# Altium footprint library TPCS.PcbLib: 6 footprints
Each footprint in its own frame and in the unit in brackets; x right, y up, seen from the top. Pads: shape width x height; smd on the part's side, far side on the other; paste and mask are expansions set on the pad; w line width, h text height; cw(c..) or ccw(c..) is an arc to the next point about the centre after c.
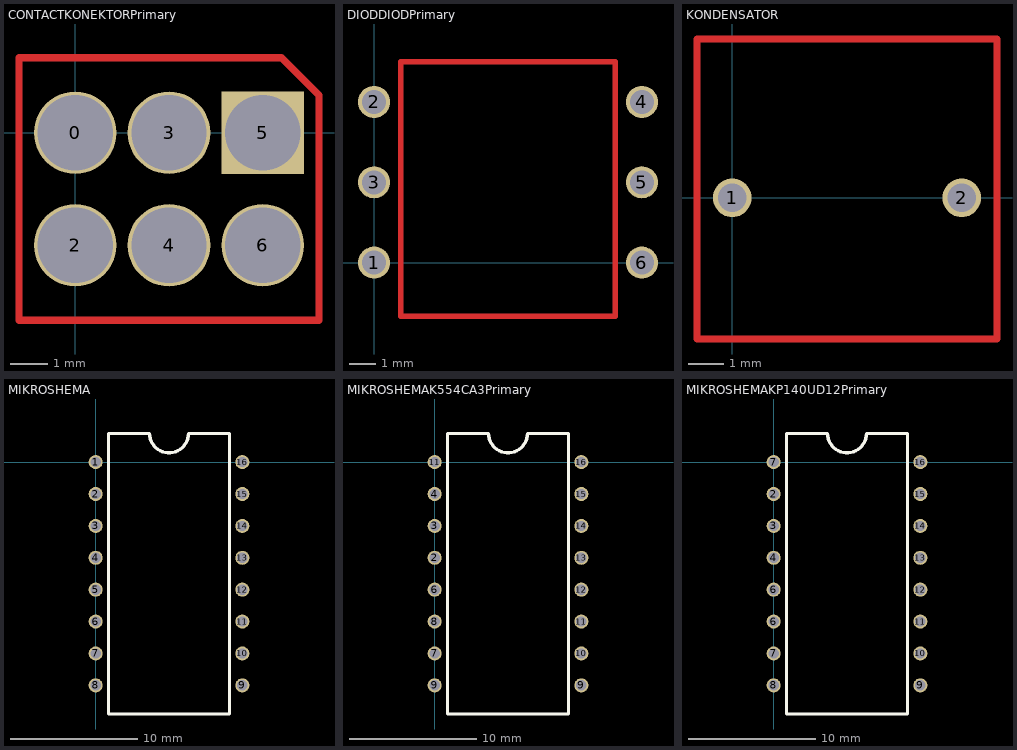
[diagram p0: the footprints below, top view; thin cyan lines are the x and y axes]

## CONTACTKONEKTORPrimary [mm]
pads (6):
  round 2.2 hole 2: 0(0,0) 2(0,-3) 3(2.5,0) 4(2.5,-3) 6(5,-3)
  rect 2.2x2.2 hole 2: 5(5,0)
Top Layer:
  lines w0.2: -1.5,-5 6.5,-5 6.5,1 5.5,2 -1.5,2 -1.5,-5

## DIODDIODPrimary [mm]
pads (6):
  round 1.2 hole 0.9 unplated: 1(0,0) 2(0,6) 3(0,3) 4(10,6) 5(10,3) 6(10,0)
Top Layer:
  lines w0.2: 1,-2 9,-2 9,7 9,7.5 1,7.5 1,-2

## KONDENSATOR [mm]
pads (2):
  round 1.1 hole 0.8: 1(0,0) 2(6.5,0)
Top Layer:
  lines w0.2: -1,-4 7,-4 7.5,-4 7.5,-3.5 7.5,4.5 -0.5,4.5 -1,4.5 -1,4 -1,-4

## MIKROSHEMA [mm]
pads (16):
  round 1.1 hole 0.8: 1(0,0) 2(0,-2.5) 3(0,-5) 4(0,-7.5) 5(0,-10) 6(0,-12.5) 7(0,-15) 8(0,-17.5) 9(11.5,-17.5) 10(11.5,-15) 11(11.5,-12.5) 12(11.5,-10) 13(11.5,-7.5) 14(11.5,-5) 15(11.5,-2.5) 16(11.5,0)
Top Overlay:
  lines w0.254: 1,-19.75 10.5,-19.75 10.5,2.25 7.274,2.25 cw(c5.75,2.25) 4.226,2.25 1,2.25 1,-19.75

## MIKROSHEMAK554CA3Primary [mm]
pads (16):
  round 1.1 hole 0.8: 2(0,-7.5) 3(0,-5) 4(0,-2.5) 6(0,-10) 7(0,-15) 8(0,-12.5) 9(0,-17.5) 9(11.5,-17.5) 10(11.5,-15) 11(0,0) 11(11.5,-12.5) 12(11.5,-10) 13(11.5,-7.5) 14(11.5,-5) 15(11.5,-2.5) 16(11.5,0)
Top Overlay:
  lines w0.254: 1,-19.75 10.5,-19.75 10.5,2.25 7.274,2.25 cw(c5.75,2.25) 4.226,2.25 1,2.25 1,-19.75

## MIKROSHEMAKP140UD12Primary [mm]
pads (16):
  round 1.1 hole 0.8: 2(0,-2.5) 3(0,-5) 4(0,-7.5) 6(0,-12.5) 6(0,-10) 7(0,-15) 7(0,0) 8(0,-17.5) 9(11.5,-17.5) 10(11.5,-15) 11(11.5,-12.5) 12(11.5,-10) 13(11.5,-7.5) 14(11.5,-5) 15(11.5,-2.5) 16(11.5,0)
Top Overlay:
  lines w0.254: 1,-19.75 10.5,-19.75 10.5,2.25 7.274,2.25 cw(c5.75,2.25) 4.226,2.25 1,2.25 1,-19.75